# Altium footprint library PCB.PSU.DCDC.001.A1.PcbLib: 25 footprints (part 2 of 2)
Each footprint in its own frame and in the unit in brackets; x right, y up, seen from the top. Pads: shape width x height; smd on the part's side, far side on the other; paste and mask are expansions set on the pad; w line width, h text height; cw(c..) or ccw(c..) is an arc to the next point about the centre after c.
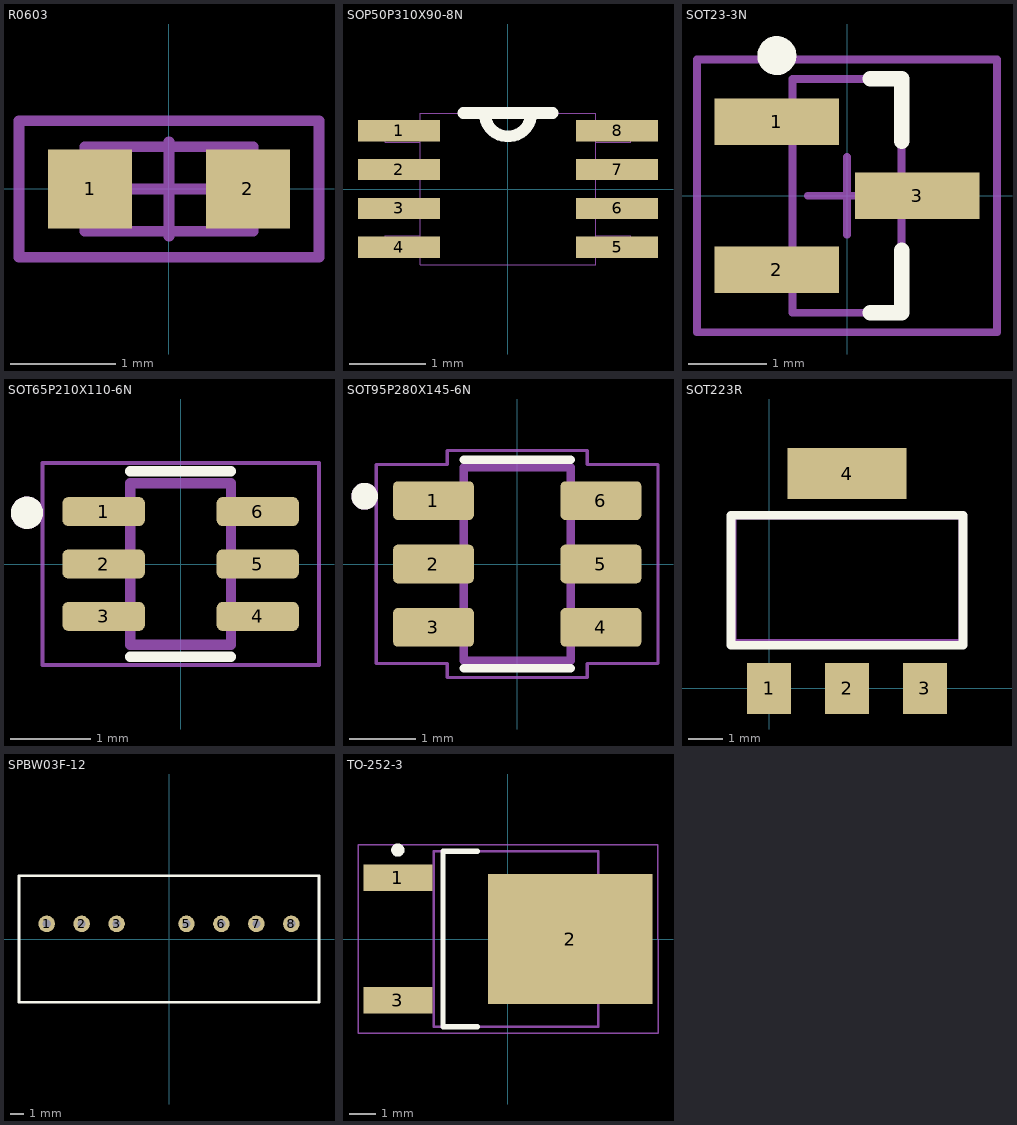
[diagram p1: the footprints below, top view; thin cyan lines are the x and y axes]

## R0603 [mm] "RESISTOR SMD 0603"
height 0.45
pads (2):
  rect 0.8x0.75 smd: 1(-0.75,0) 2(0.75,0)
Mechanical 13:
  lines w0.1: -0.8,-0.4 -0.8,0.4 0.8,0.4 0.8,-0.4 -0.8,-0.4
Mechanical 15:
  lines w0.1: -0.45,0 0.45,0 ; 0,-0.45 0,0.45 ; -1.425,-0.65 -1.425,0.65 1.425,0.65 1.425,-0.65 -1.425,-0.65
3D body "User Library-0603(1608M) Res.STEP": height 0.79, standoff 0, extent -1,-0.394 1,0.394

## SOP50P310X90-8N [mil]
height 531.5
pads (8):
  rect 42x11 smd: 1(-56,30) 2(-56,10) 3(-56,-10) 4(-56,-30) 5(56,-30) 6(56,-10) 7(56,10) 8(56,30)
Top Overlay:
  lines w6: -23,39 -12,39 ; 23,39 12,39 ; -12,39 ccw(c0,39) 12,39 ; -12,39 12,39
Mechanical 13:
  lines w0: -12,39 ccw(c0,39) 12,39 ; -12,39 -45,39 -45,-39 45,-39 45,39 12,39 ; -12,39 12,39 ; -63,-35 -45,-35 -45,-24 -63,-24 -63,-35 ; -63,-15 -45,-15 -45,-5 -63,-5 -63,-15 ; -63,5 -45,5 -45,15 -63,15 -63,5 ; -63,24 -45,24 -45,35 -63,35 -63,24 ; 45,-35 63,-35 63,-24 45,-24 45,-35 ; 45,-15 63,-15 63,-5 45,-5 45,-15 ; 45,5 63,5 63,15 45,15 45,5 ; 45,24 63,24 63,35 45,35 45,24

## SOT23-3N [mm] "SOT23, 3-Leads, Body 3.0x2.6mm (max), Pitch 0.95mm, IPC Medium Density"
height 1.1
pads (3):
  rect 1.6x0.6 smd: 1(-0.9,0.95) 2(-0.9,-0.95) 3(0.9,0)
Top Overlay:
  circle w0.25: c-0.9,1.8 r0.125
  lines w0.2: 0.3,-1.5 0.7,-1.5 0.7,-0.7 ; 0.3,1.5 0.7,1.5 0.7,0.7
Mechanical 13:
  lines w0.1: -0.7,-1.5 0.7,-1.5 0.7,1.5 -0.7,1.5 -0.7,-1.5
Mechanical 15:
  lines w0.1: -0.5,0 0.5,0 ; 0,-0.5 0,0.5 ; -1.925,-1.75 1.925,-1.75 1.925,1.75 -1.925,1.75 -1.925,-1.75
3D body: height 1.1, standoff 0.1, extent -0.7,-1.5 0.7,1.5
3D body: height 0.55, standoff 0.35, extent -0.864,0.711 -0.61,1.219
3D body: height 0.55, standoff 0.35, extent -0.864,-1.219 -0.66,-0.711
3D body: height 0.55, standoff 0.35, extent 0.66,-0.254 0.864,0.254
3D body: height 0.55, standoff 0, extent 0.864,-0.254 1.067,0.254
3D body: height 0.55, standoff 0, extent -1.067,-1.219 -0.864,-0.711
3D body: height 0.55, standoff 0, extent -1.067,0.711 -0.864,1.219
3D body: height 0.2, standoff 0, extent 1.067,-0.254 1.473,0.254
3D body: height 0.2, standoff 0, extent -1.473,-1.219 -1.067,-0.711
3D body: height 0.2, standoff 0, extent -1.422,0.711 -1.067,1.219

## SOT65P210X110-6N [mm]
pads (6):
  rrect40% 1.02x0.36 smd: 1(-0.955,0.65) 2(-0.955,0) 3(-0.955,-0.65) 4(0.955,-0.65) 5(0.955,0) 6(0.955,0.65)
Top Overlay:
  circle w0.2: c-1.905,0.635 r0.1
  lines w0.127: -0.625,-1.15 0.625,-1.15 ; -0.625,1.15 0.625,1.15
Mechanical 13:
  circle w0.2: c-1.905,0.635 r0.1
  lines w0.127: -0.625,-1 0.625,-1 0.625,1 -0.625,1 -0.625,-1
Mechanical 15:
  lines w0.05: -1.715,-1.25 -1.715,1.25 1.715,1.25 1.715,-1.25 -1.715,-1.25
3D body "NUP4202W1T2G.STEP": height 1.1, standoff 0, extent -1.05,-1 1.05,1

## SOT95P280X145-6N [mm]
pads (6):
  rrect25% 1.21x0.58 smd: 1(-1.255,0.95) 2(-1.255,0) 3(-1.255,-0.95) 4(1.255,-0.95) 5(1.255,0) 6(1.255,0.95)
Top Overlay:
  circle w0.2: c-2.286,1.016 r0.1
  lines w0.127: -0.8,-1.56 0.8,-1.56 ; -0.8,1.56 0.8,1.56
Mechanical 13:
  circle w0.2: c-2.286,1.016 r0.1
  lines w0.127: -0.8,-1.45 0.8,-1.45 0.8,1.45 -0.8,1.45 -0.8,-1.45
Mechanical 15:
  lines w0.05: -2.11,-1.49 -1.05,-1.49 -1.05,-1.7 1.05,-1.7 1.05,-1.49 2.11,-1.49 2.11,1.49 1.05,1.49 1.05,1.7 -1.05,1.7 -1.05,1.49 -2.11,1.49 -2.11,-1.49
3D body "SN74LVC2G07DBVR.STEP": height 1.45, standoff 0, extent -1.4,-1.45 1.4,1.45

## SOT223R [mm]
height 2
pads (4):
  rect 1.3x1.5 smd: 1(0,0) 2(2.286,0) 3(4.572,0)
  rect 3.5x1.5 smd: 4(2.286,6.299)
Top Overlay:
  lines w0.254: -1.116,1.27 5.688,1.27 5.688,5.08 -1.116,5.08 -1.116,1.27
Mechanical 1:
  lines w0.2: -1.05,1.35 5.65,1.35 5.65,5.05 -1.05,5.05 -1.05,1.35
3D body "SW3dPS-sot-223.step": height 1.64, standoff -0.04, extent -1,-0.3 5.5,6.632

## SP900S-0.009-00-90 [mm]

## SPBW03F-12 [mm] "CONN USB MICRO B RECPT SMT R/A"
height 13.5
pads (7):
  round 1.2 hole 0.6: 1(-8.89,1.1) 2(-6.35,1.1) 3(-3.81,1.1) 5(1.27,1.1) 6(3.81,1.1) 7(6.35,1.1) 8(8.89,1.1)
Top Overlay:
  lines w0.2: -10.9,-4.6 -10.9,4.6 10.9,4.6 10.9,-4.6 -10.9,-4.6
3D body: height 11.1, standoff 0.5, extent -10.9,-4.6 10.9,4.6

## TO-252-3 [mm] "D-PAK, 3-Pads, Body 6.20x6.66mm (max), IPC Medium Density"
height 2.4
pads (3):
  rect 2.6x1 smd: 1(-4.15,2.3) 3(-4.15,-2.3)
  rect 6.2x4.9 smd: 2(2.35,0)
Top Overlay:
  circle w0.25: c-4.15,3.35 r0.125
  lines w0.2: -1.15,-3.3 -2.45,-3.3 -2.45,3.3 -1.15,3.3
Mechanical 13:
  lines w0.1: -2.8,-3.3 -2.8,3.3 3.4,3.3 3.4,-3.3 -2.8,-3.3
Mechanical 15:
  lines w0.05: -5.65,-3.55 -5.65,3.55 5.65,3.55 5.65,-3.55 -5.65,-3.55
  lines w0.1: -0.5,0 0.5,0 ; 0,-0.5 0,0.5
3D body "DPAK460P972X240-3N.step": height 2.63, standoff 0, extent -4.575,-3.3 5.15,3.3